# EAGLE library part YD1028 (library Audio-Power-amlifier V.2.0)
18W CAR RADIO POWER AMPLIFIER
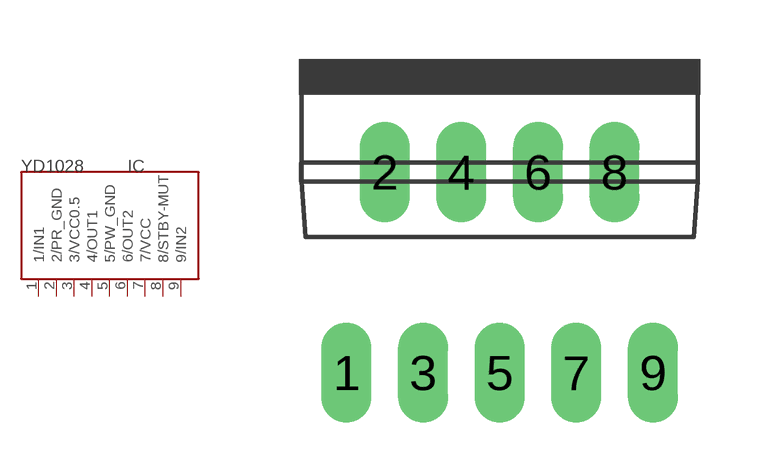
[diagram p180: symbol with the pads of TO220Z9; footprint TO220Z9]

Designator prefix IC

## YD1028  [TO220Z9]
1  1/IN1  in
2  2/PR_GND  pwr
3  3/VCC0.5  pwr
4  4/OUT1  out
5  5/PW_GND  pwr
6  6/OUT2  out
7  7/VCC  pwr
8  8/STBY-MUT  in
9  9/IN2  in

## Footprint TO220Z9 (pad centres in mm)
9-lead single in-line (TO220Z9) plastic power package
drill 0.5 pad 1.27 long: 1 -3.88,-5.08; 2 -2.91,0; 3 -1.94,-5.08; 4 -0.97,0; 5 0,-5.08; 6 0.97,0; 7 1.94,-5.08; 8 2.91,0; 9 3.88,-5.08